# EAGLE library part LM324PWR (library LM324PWR)
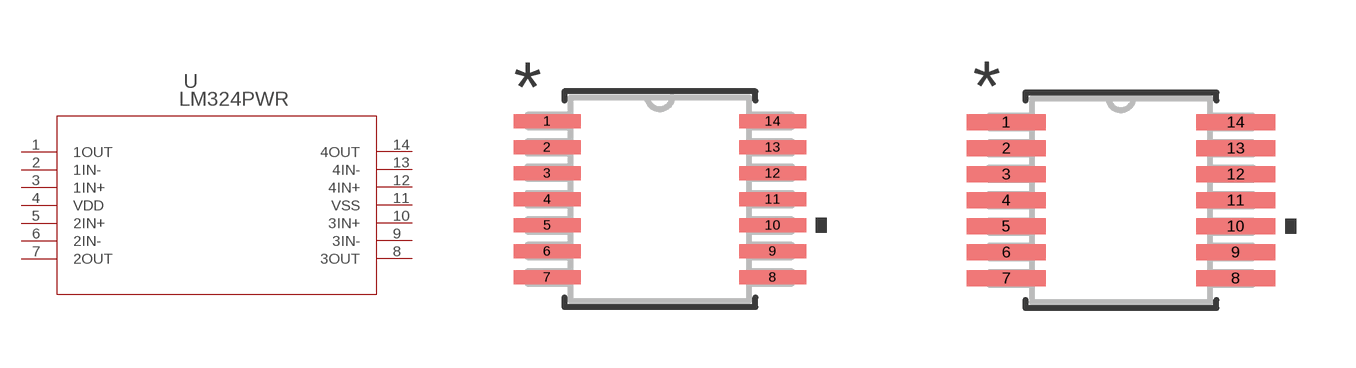
[diagram p0: symbol with the pads of PW14; footprints PW14, PW14-M]

Designator prefix U

## LM324PWR (MANUFACTURER_PART_NUMBER: LM324PWR; VENDOR: Vendor)  [PW14]
1  1OUT  out
2  1IN-  in
3  1IN+  in
4  VDD  pwr
5  2IN+  in
6  2IN-  in
7  2OUT  out
8  3OUT  out
9  3IN-  in
10  3IN+  in
11  VSS  pwr
12  4IN+  in
13  4IN-  in
14  4OUT  out

## LM324PWRPW14-M (MANUFACTURER_PART_NUMBER: LM324PWR; VENDOR: Vendor)  [PW14-M]
Pads as for PW14

## LM324PWRPW14-L (MANUFACTURER_PART_NUMBER: LM324PWR; VENDOR: Vendor)  [PW14-L]
Pads as for PW14

## Footprint PW14 (pad centres in mm)
smd 1.676 x 0.356: 1 -2.819,1.95; 2 -2.819,1.3; 3 -2.819,0.65; 4 -2.819,0; 5 -2.819,-0.65; 6 -2.819,-1.3; 7 -2.819,-1.95; 8 2.819,-1.95; 9 2.819,-1.3; 10 2.819,-0.65; 11 2.819,0; 12 2.819,0.65; 13 2.819,1.3; 14 2.819,1.95

## Footprint PW14-M (pad centres in mm)
smd 1.981 x 0.406: 1 -2.87,1.95; 2 -2.87,1.3; 3 -2.87,0.65; 4 -2.87,0; 5 -2.87,-0.65; 6 -2.87,-1.3; 7 -2.87,-1.95; 8 2.87,-1.95; 9 2.87,-1.3; 10 2.87,-0.65; 11 2.87,0; 12 2.87,0.65; 13 2.87,1.3; 14 2.87,1.95

## Footprint PW14-L (pad centres in mm)
smd 1.372 x 0.305: 1 -2.769,1.95; 2 -2.769,1.3; 3 -2.769,0.65; 4 -2.769,0; 5 -2.769,-0.65; 6 -2.769,-1.3; 7 -2.769,-1.95; 8 2.769,-1.95; 9 2.769,-1.3; 10 2.769,-0.65; 11 2.769,0; 12 2.769,0.65; 13 2.769,1.3; 14 2.769,1.95